# Altium schematic symbol library ERJ-1GNF1602C.SchLib: 1 symbol
Pins are listed as number, name and electrical type; pins without a type are passive.

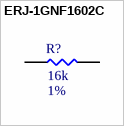
[diagram p0: symbol ERJ-1GNF1602C]

## ERJ-1GNF1602C
designator R?  Resistance: 16k  Tolerance: 1%  (hidden comment: ERJ-1GNF1602C)
Thick Film Resistors 0201 16Kohm 1% HalogenFree AEC-Q200; MFR: Panasonic; Power Rating: 1/20W; PN: ERJ-1GNF1602C; Footprint: RES0201; Package: 0201; ComponentLink1Description: Datasheet; ComponentLink1URL: https://www.mouser.ca/datasheet/2/315/AOA0000C304-1149620.pdf; Supplier 1: Mouser; Supplier Part Number 1: 667-ERJ-1GNF1602C
footprint RES0201 (A generic 0201 footprint)
pins: 1, 2